# EAGLE library part 4**?(PTD90) (library potentiometers)
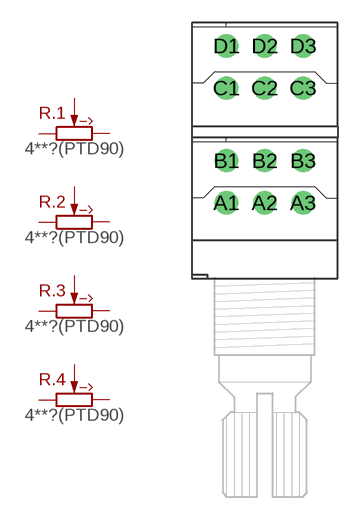
[diagram p1: symbol with the pads of PTD904; footprint PTD904]

Designator prefix R; gates .1=POTENTIOMETER .2=POTENTIOMETER .3=POTENTIOMETER .4=POTENTIOMETER

## 4B20K(PTD90)  [PTD904]
A1  .1:CCW  pas
A2  .1:W  pas
A3  .1:CW  pas
B1  .2:CCW  pas
B2  .2:W  pas
B3  .2:CW  pas
C1  .3:CCW  pas
C2  .3:W  pas
C3  .3:CW  pas
D1  .4:CCW  pas
D2  .4:W  pas
D3  .4:CW  pas

## Footprint PTD904 (pad centres in mm)
drill 1: A1 -2.5,5.02; A2 0,5.02; A3 2.5,5.02; B1 -2.5,7.77; B2 0,7.77; B3 2.5,7.77; C1 -2.5,12.52; C2 0,12.52; C3 2.5,12.52; D1 -2.5,15.27; D2 0,15.27; D3 2.5,15.27